# Altium footprint library Battery_Chargers.PcbLib: 8 footprints
Each footprint in its own frame and in the unit in brackets; x right, y up, seen from the top. Pads: shape width x height; smd on the part's side, far side on the other; paste and mask are expansions set on the pad; w line width, h text height; cw(c..) or ccw(c..) is an arc to the next point about the centre after c.
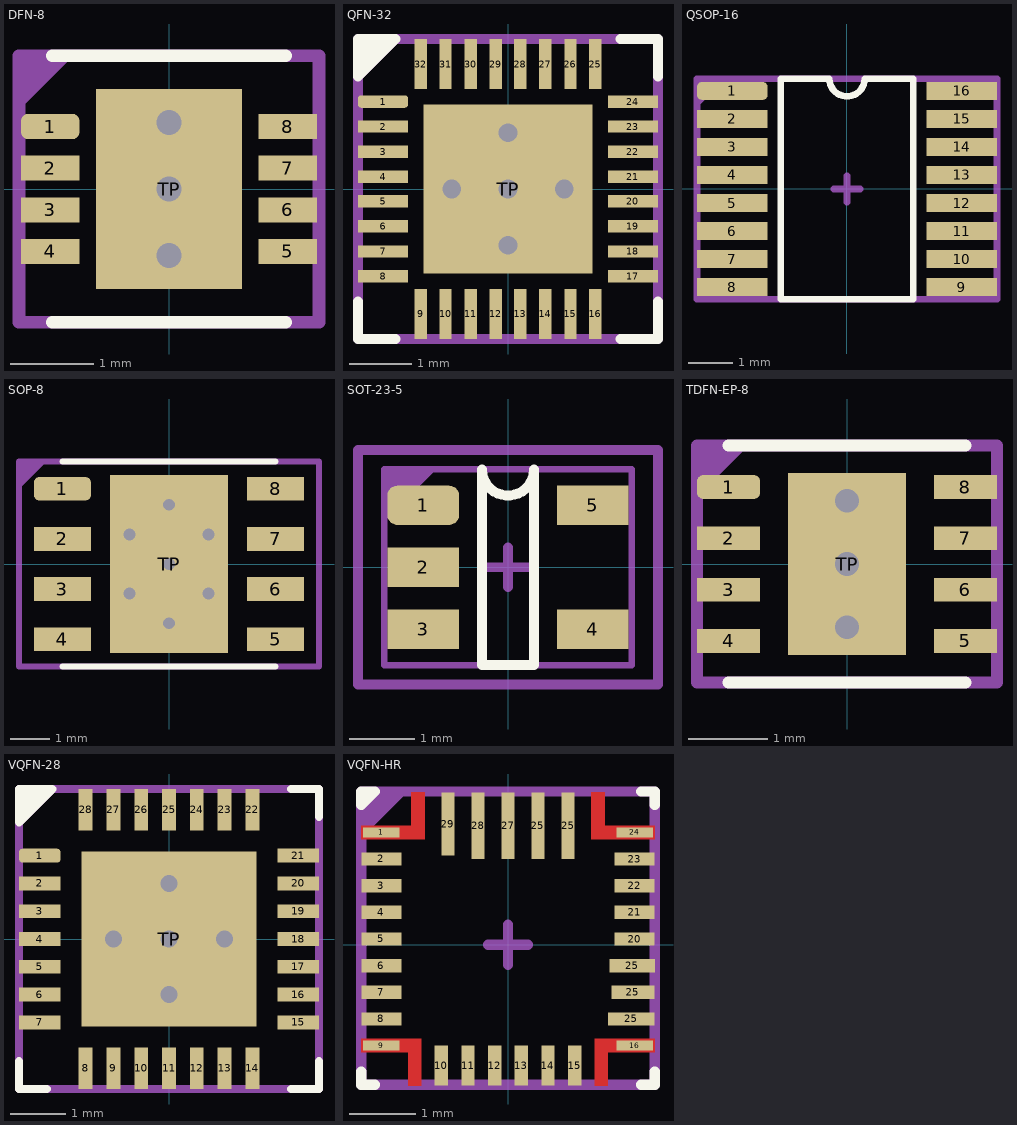
[diagram p0: the footprints below, top view; thin cyan lines are the x and y axes]

## DFN-8 [mm]
pads (9):
  rrect50% 0.7x0.3 smd mask+0.06: 1(-1.425,0.75)
  rect 0.7x0.3 smd mask+0.06: 2(-1.425,0.25) 3(-1.425,-0.25) 4(-1.425,-0.75) 5(1.425,-0.75) 6(1.425,-0.25) 7(1.425,0.25) 8(1.425,0.75)
  rect 1.75x2.4 smd: TP(0,0)
via 0,0 diameter 0.65 hole 0.3
via 0,0.8 diameter 0.65 hole 0.3
via 0,-0.8 diameter 0.65 hole 0.3
Top Overlay:
  lines w0.153: -1.4,-1.6 1.4,-1.6 ; -1.4,1.6 1.4,1.6
Top Assembly:
  region: -1.8,1.6 -1.15,1.6 -1.8,0.95
  lines w0.1: -1.8,-1.6 -1.8,1.6 1.8,1.6 1.8,-1.6 -1.8,-1.6
  text "'.Designator'" at -4.532,-0.333 h0.8
Top Courtyard (Mech6):
  lines w0.153: -0.325,0 0.325,0 ; 0,-0.325 0,0.325 ; -1.8,-1.6 -1.8,1.6 1.8,1.6 1.8,-1.6 -1.8,-1.6
3D body "DFN-8-3x3-0_5.STEP": height 0.8, standoff 0, extent -1.56,-1.55 1.56,1.55

## QFN-32 [mm]
pads (33):
  rrect50% 0.8x0.2 smd mask+0.05: 1(-2,1.4)
  rect 0.8x0.2 smd mask+0.05: 2(-2,1) 3(-2,0.6) 4(-2,0.2) 5(-2,-0.2) 6(-2,-0.6) 7(-2,-1) 8(-2,-1.4) 17(2,-1.4) 18(2,-1) 19(2,-0.6) 20(2,-0.2) 21(2,0.2) 22(2,0.6) 23(2,1) 24(2,1.4)
  rect 0.2x0.8 smd mask+0.05: 9(-1.4,-2) 10(-1,-2) 11(-0.6,-2) 12(-0.2,-2) 13(0.2,-2) 14(0.6,-2) 15(1,-2) 16(1.4,-2) 25(1.4,2) 26(1,2) 27(0.6,2) 28(0.2,2) 29(-0.2,2) 30(-0.6,2) 31(-1,2) 32(-1.4,2)
  rect 2.7x2.7 smd mask+0.05: TP(0,0)
via 0,-0.9 diameter 0.65 hole 0.3
via 0,0.9 diameter 0.65 hole 0.3
via -0.9,0 diameter 0.65 hole 0.3
via 0.9,0 diameter 0.65 hole 0.3
via 0,0 diameter 0.65 hole 0.3
Top Overlay:
  region: -2.4,2.4 -2.4,1.8 -1.8,2.4
  lines w0.1: -2.4,1.8 -2.4,1.8
  lines w0.153: -2.4,-1.8 -2.4,-2.4 -1.8,-2.4 ; 1.8,-2.4 2.4,-2.4 2.4,-1.8 ; 1.8,2.4 2.4,2.4 2.4,1.8 ; -2.4,1.8 -1.8,2.4 -2.4,2.4 -2.4,1.8
Top Assembly:
  region: -2.4,2.4 -1.7,2.4 -2.4,1.7
  lines w0.1: -2.4,-2.4 2.4,-2.4 2.4,2.4 -2.4,2.4 -2.4,-2.4
  text "'.Designator'" at -4.532,-0.333 h0.8
Top Courtyard (Mech6):
  lines w0.153: -0.3,0 0.3,0 ; 0,-0.3 0,0.3 ; -2.4,-2.4 2.4,-2.4 2.4,2.4 -2.4,2.4 -2.4,-2.4
3D body "step_temp.STEP": height 0.75, standoff -0.05, extent -2,-2 2,2

## QSOP-16 [mm]
pads (16):
  rrect50% 1.6x0.4 smd mask+0.05: 1(-2.6,2.222)
  rect 1.6x0.4 smd mask+0.05: 2(-2.6,1.587) 3(-2.6,0.953) 4(-2.6,0.318) 5(-2.6,-0.318) 6(-2.6,-0.953) 7(-2.6,-1.587) 8(-2.6,-2.222) 9(2.6,-2.222) 10(2.6,-1.587) 11(2.6,-0.953) 12(2.6,-0.318) 13(2.6,0.318) 14(2.6,0.953) 15(2.6,1.587) 16(2.6,2.222)
Top Overlay:
  lines w0.153: -1.5,-2.5 -1.5,2.5 -0.4,2.5 ccw(c0,2.5) 0.4,2.5 1.5,2.5 1.5,-2.5 -1.5,-2.5
Top Assembly:
  region: -3.4,2.5 -2.75,2.5 -3.4,1.85
  lines w0.1: -3.4,-2.5 -3.4,2.5 3.4,2.5 3.4,-2.5 -3.4,-2.5
  text "'.Designator'" at -4.532,-0.333 h0.8
Top Courtyard (Mech6):
  lines w0.153: -0.3,0 0.3,0 ; 0,-0.3 0,0.3 ; -3.4,-2.5 -3.4,2.5 3.4,2.5 3.4,-2.5 -3.4,-2.5
3D body "MAX1873TEEE+T.STEP": height 1.75, standoff 0, extent -3.01,-2.445 3.01,2.445

## SOP-8 [mm]
height 1.35
pads (9):
  rrect50% 1.45x0.6 smd: 1(-2.7,1.905)
  rect 1.45x0.6 smd: 2(-2.7,0.635) 3(-2.7,-0.635) 4(-2.7,-1.905) 5(2.7,-1.905) 6(2.7,-0.635) 7(2.7,0.635) 8(2.7,1.905)
  rect 3x4.5 smd: TP(0,0)
via 0,0 diameter 0.65 hole 0.3
via -1,-0.75 diameter 0.65 hole 0.3
via 1,-0.75 diameter 0.65 hole 0.3
via -1,0.75 diameter 0.65 hole 0.3
via 1,0.75 diameter 0.65 hole 0.3
via 0,1.5 diameter 0.65 hole 0.3
via 0,-1.5 diameter 0.65 hole 0.3
Top Overlay:
  lines w0.153: -2.7,-2.6 2.7,-2.6 ; -2.7,2.6 2.7,2.6
Top Assembly:
  region: -3.8,2.6 -3.1,2.6 -3.8,1.9
  lines w0.1: -3.8,-2.6 3.8,-2.6 3.8,2.6 -3.8,2.6 -3.8,-2.6
  text "'.Designator'" at -4.532,-0.333 h0.8
Top Courtyard (Mech6):
  lines w0.153: -0.3,0 0.3,0 ; 0,-0.3 0,0.3 ; -3.8,-2.6 3.8,-2.6 3.8,2.6 -3.8,2.6 -3.8,-2.6
3D body "TSOP127P600X135_HS-9N.step": height 1.35, standoff 0, extent -3,-2.5 3,2.5

## SOT-23-5 [mm]
pads (5):
  rrect50% 1.1x0.6 smd mask+0.05: 1(-1.3,0.95)
  rect 1.1x0.6 smd mask+0.05: 2(-1.3,0) 3(-1.3,-0.95) 4(1.3,-0.95) 5(1.3,0.95)
Top Overlay:
  lines w0.153: -0.4,-1.5 -0.4,1.5 ccw(c0,1.5) 0.4,1.5 0.4,-1.5 -0.4,-1.5
Top Assembly:
  region: -1.9,1.5 -1.9,0.7 -1.1,1.5
  lines w0.1: -1.9,-1.5 1.9,-1.5 1.9,1.5 -1.9,1.5 -1.9,-1.5
  text "'.Designator'" at -4.532,-0.333 h0.8
Top Courtyard (Mech6):
  lines w0.153: -0.3,0 0.3,0 ; 0,-0.3 0,0.3 ; -2.3,-1.8 -2.3,1.8 2.3,1.8 2.3,-1.8 -2.3,-1.8
3D body "CircuitWorks-SOT-23-5.step": height 1.1, standoff 0, extent -1.25,-1.5 1.25,1.5

## TDFN-EP-8 [mm]
pads (9):
  rrect50% 0.8x0.3 smd mask+0.05: 1(-1.5,0.975)
  rect 0.8x0.3 smd mask+0.05: 2(-1.5,0.325) 3(-1.5,-0.325) 4(-1.5,-0.975) 5(1.5,-0.975) 6(1.5,-0.325) 7(1.5,0.325) 8(1.5,0.975)
  rect 1.5x2.3 smd mask+0.05: TP(0,0)
via 0,0.8 diameter 0.65 hole 0.3
via 0,-0.8 diameter 0.65 hole 0.3
via 0,0 diameter 0.65 hole 0.3
Top Overlay:
  lines w0.153: -1.5,-1.5 1.5,-1.5 ; -1.5,1.5 1.5,1.5
Top Assembly:
  region: -1.9,1.5 -1.25,1.5 -1.9,0.85
  lines w0.1: -1.9,-1.5 -1.9,1.5 1.9,1.5 1.9,-1.5 -1.9,-1.5
  text "'.Designator'" at -4.532,-0.333 h0.8
Top Courtyard (Mech6):
  lines w0.153: -0.3,0 0.3,0 ; 0,-0.3 0,0.3 ; -1.9,-1.5 1.9,-1.5 1.9,1.5 -1.9,1.5 -1.9,-1.5
3D body "MAX1507ETA+T.STEP": height 0.8, standoff 0, extent -1.5,-1.5 1.5,1.5

## VQFN-28 [mm]
pads (29):
  rrect50% 0.75x0.25 smd mask+0.05: 1(-2.325,1.5)
  rect 0.75x0.25 smd mask+0.05: 2(-2.325,1) 3(-2.325,0.5) 4(-2.325,0) 5(-2.325,-0.5) 6(-2.325,-1) 7(-2.325,-1.5) 15(2.325,-1.5) 16(2.325,-1) 17(2.325,-0.5) 18(2.325,0) 19(2.325,0.5) 20(2.325,1) 21(2.325,1.5)
  rect 0.25x0.75 smd mask+0.05: 8(-1.5,-2.325) 9(-1,-2.325) 10(-0.5,-2.325) 11(0,-2.325) 12(0.5,-2.325) 13(1,-2.325) 14(1.5,-2.325) 22(1.5,2.325) 23(1,2.325) 24(0.5,2.325) 25(0,2.325) 26(-0.5,2.325) 27(-1,2.325) 28(-1.5,2.325)
  rect 3.15x3.15 smd paste-3 mask+0.05: TP(0,0)
via 0,0 diameter 0.65 hole 0.3
via 0,1 diameter 0.65 hole 0.3
via 0,-1 diameter 0.65 hole 0.3
via 1,0 diameter 0.65 hole 0.3
via -1,0 diameter 0.65 hole 0.3
Top Overlay:
  region: -2.7,2.7 -2.7,2.1 -2.1,2.7
  lines w0.153: -2.7,-2.2 -2.7,-2.7 -2.2,-2.7 ; 2.2,-2.7 2.7,-2.7 2.7,-2.2 ; 2.2,2.7 2.7,2.7 2.7,2.2 ; -2.7,2.1 -2.1,2.7 -2.7,2.7 -2.7,2.1
Top Paste:
  region: -0.15,-1.45 -1.45,-1.45 -1.45,-0.15 -0.15,-0.15
  region: 1.45,-1.45 0.15,-1.45 0.15,-0.15 1.45,-0.15
  region: -0.15,0.15 -1.45,0.15 -1.45,1.45 -0.15,1.45
  region: 1.45,0.15 0.15,0.15 0.15,1.45 1.45,1.45
Top Assembly:
  region: -2.7,2.7 -2,2.7 -2.7,2
  lines w0.1: -2.7,-2.7 -2.7,2.7 2.7,2.7 2.7,-2.7 -2.7,-2.7
  text "'.Designator'" at -4.532,-0.333 h0.8
Top Courtyard (Mech6):
  lines w0.153: -0.3,-0.012 0.3,-0.012 ; 0,-0.312 0,0.288 ; -2.7,-2.7 2.7,-2.7 2.7,2.7 -2.7,2.7 -2.7,-2.7
3D body "step_temp.STEP": height 1, standoff 0, extent -2.5,-2.5 2.5,2.5

## VQFN-HR [mm]
pads (29):
  rect 0.55x0.15 smd paste-1 mask+0: 1(-1.9,1.687) 9(-1.9,-1.512) 16(1.9,-1.512) 24(1.9,1.687)
  rect 0.6x0.2 smd mask+0.05: 2(-1.9,1.288) 3(-1.9,0.888) 4(-1.9,0.488) 5(-1.9,0.088) 6(-1.9,-0.312) 7(-1.9,-0.712) 8(-1.9,-1.112) 20(1.9,0.088) 21(1.9,0.487) 22(1.9,0.888) 23(1.9,1.288)
  rect 0.2x0.6 smd mask+0.05: 10(-1,-1.812) 11(-0.6,-1.812) 12(-0.2,-1.812) 13(0.2,-1.812) 14(0.6,-1.812) 15(1,-1.812)
  rect 0.2x1 smd mask+0.05: 25(0.45,1.787) 25(0.9,1.787) 27(0,1.787) 28(-0.45,1.787)
  rect 0.7x0.2 smd mask+0.05: 25(1.85,-1.112)
  rect 0.68x0.2 smd mask+0.05: 25(1.863,-0.312)
  rect 0.65x0.2 smd mask+0.05: 25(1.875,-0.713)
  rect 0.2x0.95 smd mask+0.05: 29(-0.9,1.813)
Top Layer:
  region: -1.25,1.587 -2.2,1.587 -2.2,1.787 -1.45,1.787 -1.45,2.288 -1.25,2.288
  region: -1.3,-2.113 -1.5,-2.113 -1.5,-1.612 -2.2,-1.612 -2.2,-1.412 -1.3,-1.412
  region: 2.2,-1.612 1.5,-1.612 1.5,-2.113 1.3,-2.113 1.3,-1.412 2.2,-1.412
  region: 1.45,1.787 2.2,1.787 2.2,1.587 1.25,1.587 1.25,2.288 1.45,2.288
Top Overlay:
  lines w0.153: -2.2,-1.9 -2.2,-2.1 -2,-2.1 ; 2,-2.1 2.2,-2.1 2.2,-1.9 ; 2,2.3 2.2,2.3 2.2,2.1 ; -2.2,2.1 -2,2.3 -2.2,2.3 -2.2,2.1
Top Paste:
  region: -1.25,1.587 -2.2,1.587 -2.2,1.787 -1.45,1.787 -1.45,2.288 -1.25,2.288
  region: -1.3,-2.113 -1.5,-2.113 -1.5,-1.612 -2.2,-1.612 -2.2,-1.412 -1.3,-1.412
  region: 2.2,-1.612 1.5,-1.612 1.5,-2.113 1.3,-2.113 1.3,-1.412 2.2,-1.412
  region: 1.45,1.787 2.2,1.787 2.2,1.587 1.25,1.587 1.25,2.288 1.45,2.288
Top Solder:
  region: -1.2,1.538 -2.25,1.538 -2.25,1.837 -1.5,1.837 -1.5,2.338 -1.2,2.338
  region: -1.25,-2.163 -1.55,-2.163 -1.55,-1.662 -2.25,-1.662 -2.25,-1.362 -1.25,-1.362
  region: 2.25,-1.662 1.55,-1.662 1.55,-2.163 1.25,-2.163 1.25,-1.362 2.25,-1.362
  region: 1.5,1.837 2.25,1.837 2.25,1.538 1.2,1.538 1.2,2.338 1.5,2.338
Top Assembly:
  region: -2.2,2.3 -1.5,2.3 -2.2,1.6
  lines w0.1: -2.2,-2.1 -2.2,2.3 2.2,2.3 2.2,-2.1 -2.2,-2.1
  text "'.Designator'" at -4.532,-0.333 h0.8
Top Courtyard (Mech6):
  lines w0.153: -0.3,0 0.3,0 ; 0,-0.3 0,0.3 ; -2.2,-2.1 2.2,-2.1 2.2,2.3 -2.2,2.3 -2.2,-2.1
3D body "RQM0029A.stp": height 1, standoff 0, extent -2,-1.9 2,2.1